# Altium footprint library ECAP.PcbLib: 8 footprints
Each footprint in its own frame and in the unit in brackets; x right, y up, seen from the top. Pads: shape width x height; smd on the part's side, far side on the other; paste and mask are expansions set on the pad; w line width, h text height; cw(c..) or ccw(c..) is an arc to the next point about the centre after c.
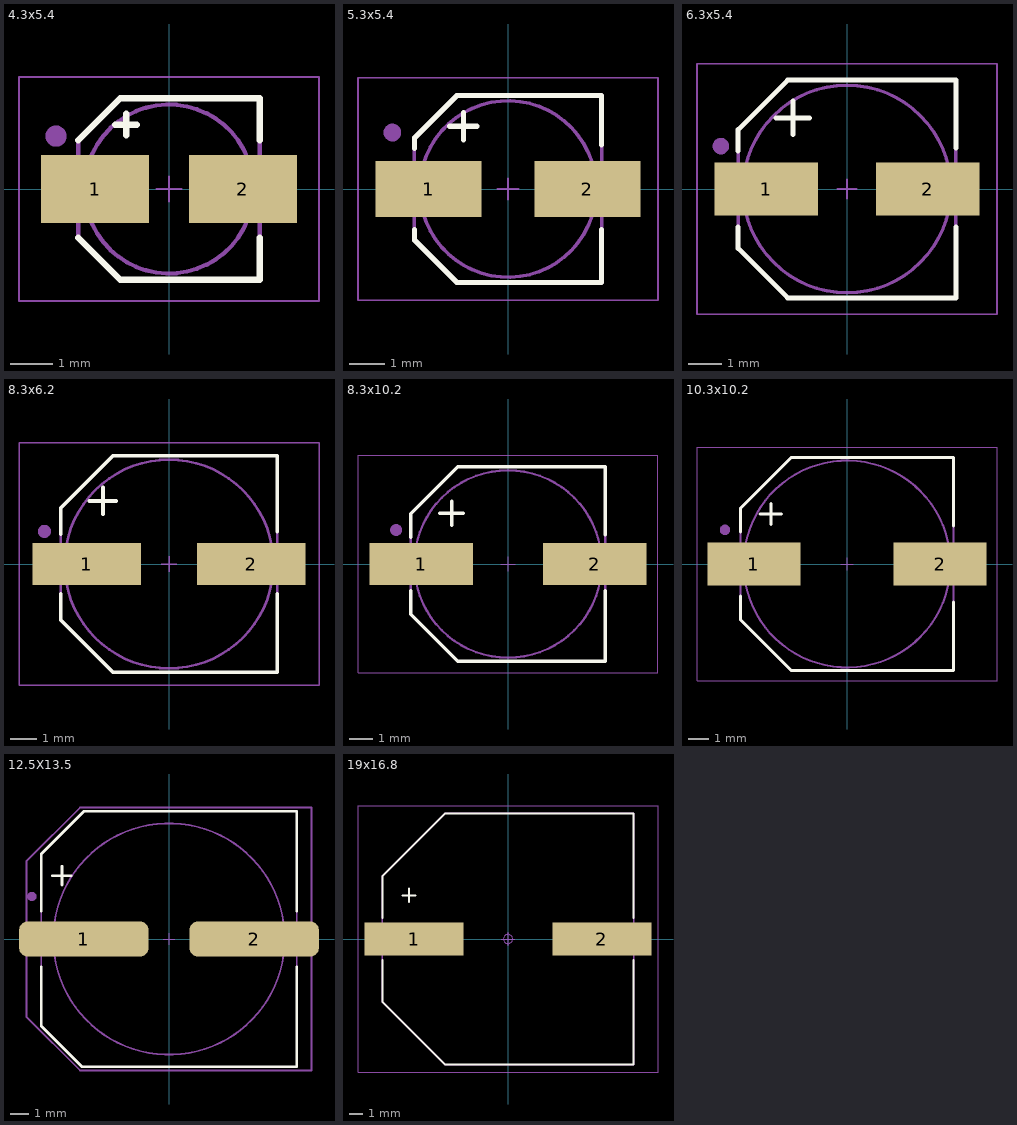
[diagram p0: the footprints below, top view; thin cyan lines are the x and y axes]

## 4.3x5.4 [mm] "Capacitor, Aluminium Electrolytric, 4.3mm L X 4.3mm W X 5.4mm H, IPC Medium Density"
height 5.4
pads (2):
  rect 2.55x1.6 smd: 1(-1.75,0) 2(1.75,0)
Top Overlay:
  lines w0.15: -2.15,-1.15 -1.15,-2.15 2.15,-2.15 2.15,-1.15 ; -2.15,1.15 -1.15,2.15 2.15,2.15 2.15,1.15 ; -1.27,1.524 -0.762,1.524 ; -1.008,1.27 -1.008,1.778
Mechanical 14:
  circle w0.25: c-2.675,1.25 r0.125
  circle w0.1: c0,0 r2
  lines w0.1: -2.15,-1.15 -1.15,-2.15 2.15,-2.15 2.15,2.15 -1.15,2.15 -2.15,1.15 -2.15,-1.15
Mechanical 15:
  lines w0.05: -0.3,0 0.3,0 ; 0,-0.3 0,0.3 ; -3.55,-2.65 -3.55,2.65 3.55,2.65 3.55,-2.65 -3.55,-2.65
3D body "CAPAE430X540N.stp": height 5.7, standoff 0, extent -2.75,-2.25 2.75,2.25

## 5.3x5.4 [mm] "Capacitor, Aluminium Electrolytric, 5.3mm L X 5.3mm W X 5.4mm H, IPC Medium Density"
height 5.4
pads (2):
  rect 3x1.6 smd: 1(-2.25,0) 2(2.25,0)
Top Overlay:
  lines w0.15: -2.65,-1.15 -2.65,-1.45 -1.45,-2.65 2.65,-2.65 2.65,-1.15 ; -2.65,1.15 -2.65,1.45 -1.45,2.65 2.65,2.65 2.65,1.25 ; -1.651,1.778 -0.889,1.778 ; -1.262,1.397 -1.262,2.159
Mechanical 14:
  circle w0.25: c-3.275,1.6 r0.125
  circle w0.1: c0,0 r2.5
  lines w0.1: -2.65,-1.45 -1.45,-2.65 2.65,-2.65 2.65,2.65 -1.45,2.65 -2.65,1.45 -2.65,-1.45
Mechanical 15:
  lines w0.05: -0.3,0 0.3,0 ; 0,-0.3 0,0.3 ; -4.25,-3.15 -4.25,3.15 4.25,3.15 4.25,-3.15 -4.25,-3.15
3D body "CAPAE530X540N.stp": height 5.7, standoff 0, extent -3.25,-2.75 3.25,2.75

## 6.3x5.4 [mm] "Capacitor, Aluminium Electrolytric, 6.6mm L X 6.6mm W X 5.4mm H, IPC Medium Density"
height 5.4
pads (2):
  rect 3.15x1.6 smd: 1(-2.45,0) 2(2.45,0)
Top Overlay:
  lines w0.15: -3.3,-1.15 -3.3,-1.8 -1.8,-3.3 3.3,-3.3 3.3,-1.15 ; -3.3,1.15 -3.3,1.8 -1.8,3.3 3.3,3.3 3.3,1.25 ; -2.159,2.159 -1.143,2.159 ; -1.643,1.659 -1.643,2.675
Mechanical 14:
  circle w0.25: c-3.825,1.3 r0.125
  circle w0.1: c0,0 r3.15
  lines w0.1: -3.3,-1.8 -1.8,-3.3 3.3,-3.3 3.3,3.3 -1.8,3.3 -3.3,1.8 -3.3,-1.8
Mechanical 15:
  lines w0.05: -0.3,0 0.3,0 ; 0,-0.3 0,0.3 ; -4.55,-3.8 -4.55,3.8 4.55,3.8 4.55,-3.8 -4.55,-3.8
3D body "CAPAE660X540N.stp": height 5.7, standoff 0, extent -3.9,-3.4 3.9,3.4

## 8.3x6.2 [mm] "Capacitor, Aluminium Electrolytric, 8.3mm L X 8.3mm W X 6.2mm H, IPC Medium Density"
height 6.2
pads (2):
  rect 4.15x1.6 smd: 1(-3.15,0) 2(3.15,0)
Top Overlay:
  lines w0.15: -4.15,-1.15 -4.15,-2.15 -2.15,-4.15 4.15,-4.15 4.15,-1.15 ; -4.15,1.15 -4.15,2.15 -2.15,4.15 4.15,4.15 4.15,1.25 ; -3.048,2.413 -2.032,2.413 ; -2.532,1.913 -2.532,2.929
Mechanical 14:
  circle w0.25: c-4.774,1.251 r0.125
  circle w0.1: c0,0 r4
  lines w0.1: -4.15,-2.15 -2.15,-4.15 4.15,-4.15 4.15,4.15 -2.15,4.15 -4.15,2.15 -4.15,-2.15
Mechanical 15:
  lines w0.05: -0.3,0 0.3,0 ; 0,-0.3 0,0.3 ; -5.75,-4.65 -5.75,4.65 5.75,4.65 5.75,-4.65 -5.75,-4.65
3D body "CAPAE830X620N.stp": height 6.2, standoff 0, extent -4.75,-4.25 4.75,4.25

## 8.3x10.2 [mm] "Capacitor, Aluminium Electrolytric, 8.3mm L X 8.3mm W X 10.2mm H, IPC Medium Density"
height 10.2
pads (2):
  rect 4.4x1.8 smd: 1(-3.7,0) 2(3.7,0)
Top Overlay:
  lines w0.15: -4.15,-1.15 -4.15,-2.15 -2.15,-4.15 4.15,-4.15 4.15,-1.15 ; -4.15,1.15 -4.15,2.15 -2.15,4.15 4.15,4.15 4.15,1.25 ; -2.921,2.159 -1.905,2.159 ; -2.405,1.659 -2.405,2.675
Mechanical 14:
  circle w0.1: c0,0 r4
  circle w0.25: c-4.775,1.45 r0.125
  lines w0.1: -4.15,-2.15 -4.15,2.15 -2.15,4.15 4.15,4.15 4.15,-4.15 -2.15,-4.15 -4.15,-2.15
Mechanical 15:
  lines w0.05: -0.3,0 0.3,0 ; 0,-0.3 0,0.3 ; -6.4,-4.65 6.4,-4.65 6.4,4.65 -6.4,4.65 -6.4,-4.65
3D body "CAPAE830X1020N.stp": height 10.2, standoff 0, extent -4.75,-4.25 5.25,4.25

## 10.3x10.2 [mm] "Capacitor, Aluminium Electrolytric, 10.3mm L X 10.3mm W X 10.2mm H, IPC Medium Density"
height 10.2
pads (2):
  rect 4.5x2.1 smd: 1(-4.5,0) 2(4.5,0)
Top Overlay:
  lines w0.15: -5.15,-1.55 -5.15,-2.35 -5.15,-2.7 -2.7,-5.15 5.15,-5.15 5.15,-1.85 ; -5.15,1.55 -5.15,2.7 -2.7,5.15 5.15,5.15 5.15,1.85 ; -4.191,2.413 -3.175,2.413 ; -3.675,1.913 -3.675,2.929
Mechanical 14:
  circle w0.1: c0,0 r5
  circle w0.25: c-5.899,1.651 r0.125
  lines w0.1: -5.15,-2.7 -2.7,-5.15 5.15,-5.15 5.15,5.15 -2.7,5.15 -5.15,2.7 -5.15,-2.7
Mechanical 15:
  lines w0.05: -0.3,0 0.3,0 ; 0,-0.3 0,0.3 ; -7.25,-5.65 -7.25,5.65 7.25,5.65 7.25,-5.65 -7.25,-5.65
3D body "CAPAE1030X1020N.stp": height 10.2, standoff 0, extent -6,-5.25 6,5.25

## 12.5X13.5 [mm]
height 13.5
pads (2):
  rrect50% 7x1.9 smd: 1(-4.6,0) 2(4.6,0)
Top Overlay:
  lines w0.15: -6.9,-1.5 -6.9,-4.7 -4.7,-6.9 6.9,-6.9 6.9,-1.5 ; -6.9,1.5 -6.9,4.6 -4.6,6.9 6.9,6.9 6.9,1.5 ; -6.291,3.413 -5.275,3.413 ; -5.775,2.913 -5.775,3.929
Mechanical 14:
  circle w0.25: c-7.4,2.3 r0.125
  circle w0.1: c0,0 r6.25
  lines w0.1: -6.9,-4.7 -6.9,4.6 -4.6,6.9 6.9,6.9 6.9,-6.9 -4.7,-6.9 -6.9,-4.7
Mechanical 15:
  lines w0.05: -0.3,0 0.3,0 ; 0,-0.3 0,0.3
  lines w0.1: -7.7,-4.2 -4.8,-7.1 7.7,-7.1 7.7,7.1 -4.8,7.1 -7.7,4.2 -7.7,-4.2
3D body "PCAP_12_5x13_5-ELECT.stp": height 14.55, standoff 0, extent -6.998,-6.896 6.998,6.896

## 19x16.8 [mm] "Capacitor,Aluminum Electrolytic; 19.00mm L X 19.00mm W X 16.80mm H , IPC Medium Density"
height 16.8
pads (2):
  rect 7.5x2.5 smd: 1(-7.1,0) 2(7.1,0)
Top Overlay:
  lines w0.15: -9.5,-1.6 -9.5,-4.75 -4.75,-9.5 9.5,-9.5 9.5,-1.6 ; -9.5,1.6 -9.5,4.75 -4.75,9.5 9.5,9.5 9.5,1.6 ; -8.001,3.302 -6.985,3.302 ; -7.485,2.802 -7.485,3.818
Mechanical 15:
  circle w0.05: c0,0 r0.35
  lines w0.05: -0.5,0 0.5,0 ; 0,-0.5 0,0.5 ; -11.35,-10.1 11.35,-10.1 11.35,10.1 -11.35,10.1 -11.35,-10.1
  lines w0.1: -9.5,-4.75 -4.75,-9.5 9.5,-9.5 9.5,9.5 -4.75,9.5 -9.5,4.75 -9.5,-4.75
3D body "CAPAE1900X1680N.stp": height 16.8, standoff 0, extent -10.5,-9.6 10.5,9.6